# Altium footprint library PcbLib1.PcbLib: 3 footprints
Each footprint in its own frame and in the unit in brackets; x right, y up, seen from the top. Pads: shape width x height; smd on the part's side, far side on the other; paste and mask are expansions set on the pad; w line width, h text height; cw(c..) or ccw(c..) is an arc to the next point about the centre after c.
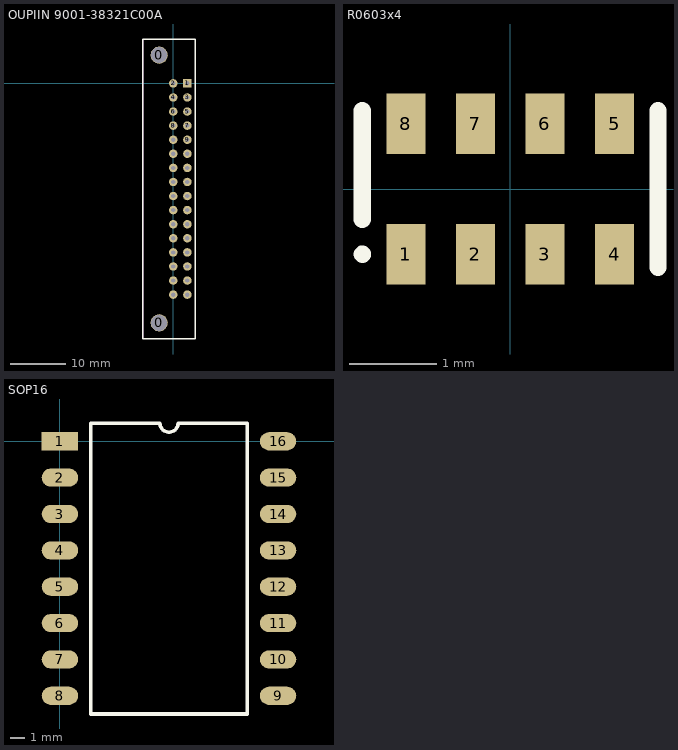
[diagram p0: the footprints below, top view; thin cyan lines are the x and y axes]

## OUPIIN 9001-38321C00A [mil]
pads (34):
  round 122.05 hole 114.17: 0(-100,-1700) 0(-100,200)
  rect 60x60 hole 30: 1(100,0)
  round 60 hole 30: 2(0,0) 3(100,-100) 4(0,-100) 5(100,-200) 6(0,-200) 7(100,-300) 8(0,-300) 9(100,-400) 10(0,-400) 11(100,-500) 12(0,-500) 13(100,-600) 14(0,-600) 15(100,-700) 16(0,-700) 17(100,-800) 18(0,-800) 19(100,-900) 20(0,-900) 21(100,-1000) 22(0,-1000) 23(100,-1100) 24(0,-1100) 25(100,-1200) 26(0,-1200) 27(100,-1300) 28(0,-1300) 29(100,-1400) 30(0,-1400) 31(100,-1500) 32(0,-1500)
Top Overlay:
  lines w10: -216.54,-1814.96 157.48,-1814.96 157.48,314.96 -216.54,314.96 -216.54,-1814.96
Mechanical 1:
  lines w10: -218.11,-1812.99 -218.11,312.99

## R0603x4 [mm] "Chip Resistor Array, (0603x4); SM; 8 Leads; Body 3.40 x 1.80 mm (LxW max)"
height 0.7
pads (8):
  rect 0.45x0.7 smd: 1(-1.2,-0.75) 2(-0.4,-0.75) 3(0.4,-0.75) 4(1.2,-0.75) 5(1.2,0.75) 6(0.4,0.75) 7(-0.4,0.75) 8(-1.2,0.75)
Top Overlay:
  circle w0.1: c-1.7,-0.75 r0.05
  lines w0.2: -1.7,-0.35 -1.7,0.9 ; 1.7,-0.9 1.7,0.9
3D body: height 0.65, standoff 0, extent -1.6,-0.762 1.6,0.838

## SOP16 [mil]
pads (16):
  rect 100x50 smd: 1(0,0)
  oval 100x50 smd: 2(0,-100) 3(0,-200) 4(0,-300) 5(0,-400) 6(0,-500) 7(0,-600) 8(0,-700) 9(600,-700) 10(600,-600) 11(600,-500) 12(600,-400) 13(600,-300) 14(600,-200) 15(600,-100) 16(600,0)
Top Overlay:
  lines w10: 85,-750 515,-750 515,50 325,50 cw(c300,50) 275,50 85,50 85,-750